# EAGLE library part LUMEX_LDF-A5616RI (library travis)
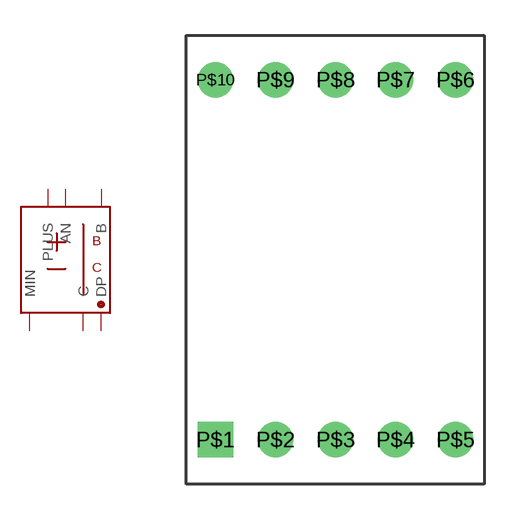
[diagram p5: symbol with the pads of LUMEX_LDS-A516RI; footprint LUMEX_LDS-A516RI]

Designator prefix D

## LUMEX_LDF-A5616RI  [LUMEX_LDS-A516RI]
P$1  MIN
P$3  AN
P$4  C
P$5  DP
P$6  B
P$8  AN
P$9  PLUS

## Footprint LUMEX_LDS-A516RI (pad centres in mm)
drill 0.7 pad 1.5 square: P$1 -5.08,-7.62
drill 0.7 pad 1.5: P$2 -2.54,-7.62; P$3 0,-7.62; P$4 2.54,-7.62; P$5 5.08,-7.62; P$6 5.08,7.62; P$7 2.54,7.62; P$8 0,7.62; P$9 -2.54,7.62; P$10 -5.08,7.62